# EAGLE library part TCE1608G-900-4P (library Joule Expansion Board)
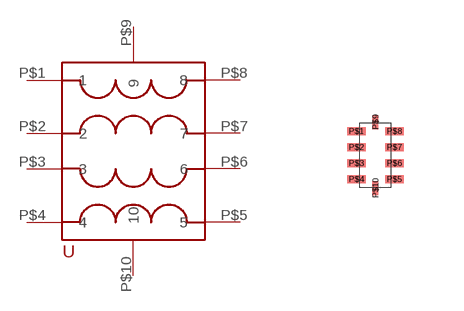
[diagram p9: symbol with the pads of 0603_(1608_METRIC); footprint 0603_(1608_METRIC)]

Designator prefix -

## TCE1608G-900-4P  [0603_(1608_METRIC)]
P$1  1
P$2  2
P$3  3
P$4  4
P$5  5
P$6  6
P$7  7
P$8  8
P$9  9
P$10  10

## Footprint 0603_(1608_METRIC) (pad centres in mm)
smd 0.47 x 0.2: P$1 -0.475,0.6; P$2 -0.475,0.2; P$3 -0.475,-0.2; P$4 -0.475,-0.6; P$5 0.475,-0.6; P$6 0.475,-0.2; P$7 0.475,0.2; P$8 0.475,0.6
smd 0.15 x 0.35: P$9 0,0.825; P$10 0,-0.825